# EAGLE library part USB_A (library NR_connectors)
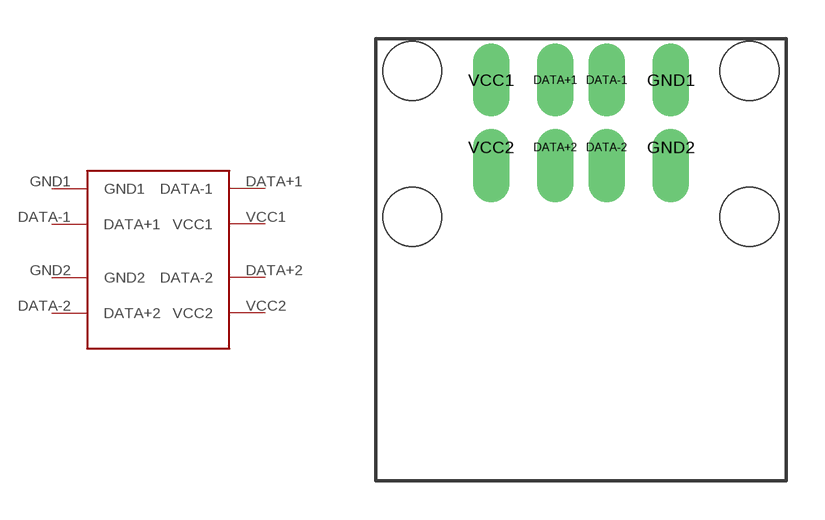
[diagram p1: symbol with the pads of USB_A; footprint USB_A]

Designator prefix -

## USB_A  [USB_A]
DATA+1  DATA-1
DATA+2  DATA-2
DATA-1  DATA+1
DATA-2  DATA+2
GND1  GND1
GND2  GND2
VCC1  VCC1
VCC2  VCC2

## Footprint USB_A (pad centres in mm)
drill 0.92 long: DATA+1 -1,7.005; DATA-1 1,7.005; GND1 3.5,7.005; VCC1 -3.5,7.005
drill 0.92 offset: DATA+2 -1,4.385; DATA-2 1,4.385; GND2 3.5,4.385; VCC2 -3.5,4.385
hole 2.3 at -6.57,7.355
hole 2.3 at -6.57,1.675
hole 2.3 at 6.57,7.355
hole 2.3 at 6.57,1.675